# EAGLE library part FT601Q (library FTDI)
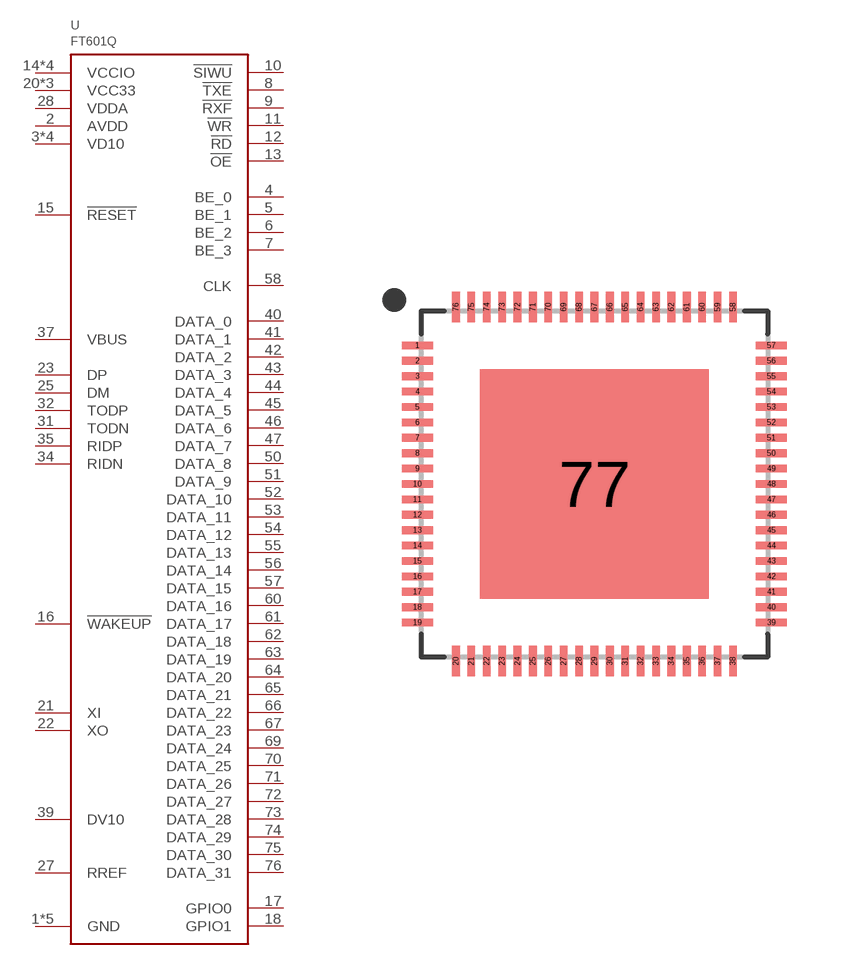
[diagram p2: symbol with the pads of QFN76; footprint QFN76]

Designator prefix U

## FT601Q  [QFN76]
1  GND
2  AVDD
3  VD10
4  BE_0
5  BE_1
6  BE_2
7  BE_3
8  !TXE
9  !RXF
10  !SIWU
11  !WR
12  !RD
13  !OE
14  VCCIO
15  !RESET
16  !WAKEUP
17  GPIO0
18  GPIO1
20  VCC33
21  XI
22  XO
23  DP
24  VCC33
25  DM
26  GND
27  RREF
28  VDDA
29  GND
30  VD10
31  TODN
32  TODP
33  VD10
34  RIDN
35  RIDP
36  GND
37  VBUS
38  VCC33
39  DV10
40  DATA_0
41  DATA_1
42  DATA_2
43  DATA_3
44  DATA_4
45  DATA_5
46  DATA_6
47  DATA_7
48  VD10
49  VCCIO
50  DATA_8
51  DATA_9
52  DATA_10
53  DATA_11
54  DATA_12
55  DATA_13
56  DATA_14
57  DATA_15
58  CLK
59  VCCIO
60  DATA_16
61  DATA_17
62  DATA_18
63  DATA_19
64  DATA_20
65  DATA_21
66  DATA_22
67  DATA_23
68  VCCIO
69  DATA_24
70  DATA_25
71  DATA_26
72  DATA_27
73  DATA_28
74  DATA_29
75  DATA_30
76  DATA_31
77  GND

## Footprint QFN76 (pad centres in mm)
smd 0.8 x 0.2: 1 -4.6,3.6; 2 -4.6,3.2; 3 -4.6,2.8; 4 -4.6,2.4; 5 -4.6,2; 6 -4.6,1.6; 7 -4.6,1.2; 8 -4.6,0.8; 9 -4.6,0.4; 10 -4.6,0; 11 -4.6,-0.4; 12 -4.6,-0.8; 13 -4.6,-1.2; 14 -4.6,-1.6; 15 -4.6,-2; 16 -4.6,-2.4; 17 -4.6,-2.8; 18 -4.6,-3.2; 19 -4.6,-3.6; 39 4.6,-3.6; 40 4.6,-3.2; 41 4.6,-2.8; 42 4.6,-2.4; 43 4.6,-2; 44 4.6,-1.6; 45 4.6,-1.2; 46 4.6,-0.8; 47 4.6,-0.4; 48 4.6,0; 49 4.6,0.4; 50 4.6,0.8; 51 4.6,1.2; 52 4.6,1.6; 53 4.6,2; 54 4.6,2.4; 55 4.6,2.8; 56 4.6,3.2; 57 4.6,3.6
smd 0.2 x 0.8: 20 -3.6,-4.6; 21 -3.2,-4.6; 22 -2.8,-4.6; 23 -2.4,-4.6; 24 -2,-4.6; 25 -1.6,-4.6; 26 -1.2,-4.6; 27 -0.8,-4.6; 28 -0.4,-4.6; 29 0,-4.6; 30 0.4,-4.6; 31 0.8,-4.6; 32 1.2,-4.6; 33 1.6,-4.6; 34 2,-4.6; 35 2.4,-4.6; 36 2.8,-4.6; 37 3.2,-4.6; 38 3.6,-4.6; 58 3.6,4.6; 59 3.2,4.6; 60 2.8,4.6; 61 2.4,4.6; 62 2,4.6; 63 1.6,4.6; 64 1.2,4.6; 65 0.8,4.6; 66 0.4,4.6; 67 0,4.6; 68 -0.4,4.6; 69 -0.8,4.6; 70 -1.2,4.6; 71 -1.6,4.6; 72 -2,4.6; 73 -2.4,4.6; 74 -2.8,4.6; 75 -3.2,4.6; 76 -3.6,4.6
smd 5.95 x 5.95: 77 0,0